# Altium footprint library Header15.PcbLib: 1 footprints
Each footprint in its own frame and in the unit in brackets; x right, y up, seen from the top. Pads: shape width x height; smd on the part's side, far side on the other; paste and mask are expansions set on the pad; w line width, h text height; cw(c..) or ccw(c..) is an arc to the next point about the centre after c.
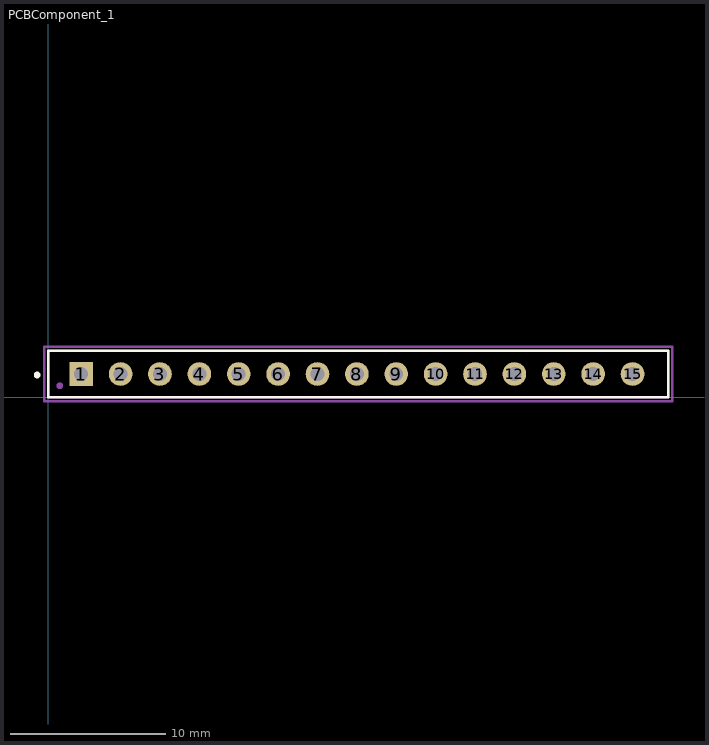
[diagram p0: the footprint, top view; thin cyan lines are the x and y axes]

## PCBComponent_1 [mil]
pads (15):
  rect 60x60 hole 35.43: 1(83.98,59.06)
  round 60 hole 35.43: 2(183.98,59.06) 3(283.98,59.06) 4(383.98,59.06) 5(483.98,59.06) 6(583.98,59.06) 7(683.98,59.06) 8(783.98,59.06) 9(883.98,59.06) 10(983.98,59.06) 11(1083.98,59.06) 12(1183.98,59.06) 13(1283.98,59.06) 14(1383.98,59.06) 15(1483.98,59.06)
Top Overlay:
  circle w10: c-27.77,56.48 r3.46
  lines w5.91: 0,0 0,118.11 1574.8,118.11 1574.79,0 0,0
Top Assembly:
  circle w10: c29.53,29.53 r3.46
  lines w5.91: 1574.8,0.01 1574.8,118.11 0,118.11 0,0 1574.79,0 ; 1574.79,0 1574.8,0.01
Top Courtyard:
  lines w5.91: -9.84,-9.84 0,-9.84 1574.8,-9.84 1584.65,-9.84 1584.65,0 1584.65,118.11 1584.65,127.95 1574.8,127.95 0,127.95 -9.84,127.95 -9.84,118.11 -9.84,0 -9.84,-9.84